# EAGLE library part OMAP3530-CBC-REF (library ti-omap)
OMAP3530-CBC edit this description Auto generated by make-symbol-device-package-bsdl.ulp Rev. 32 Source: OMAP3530-CBC.bsd
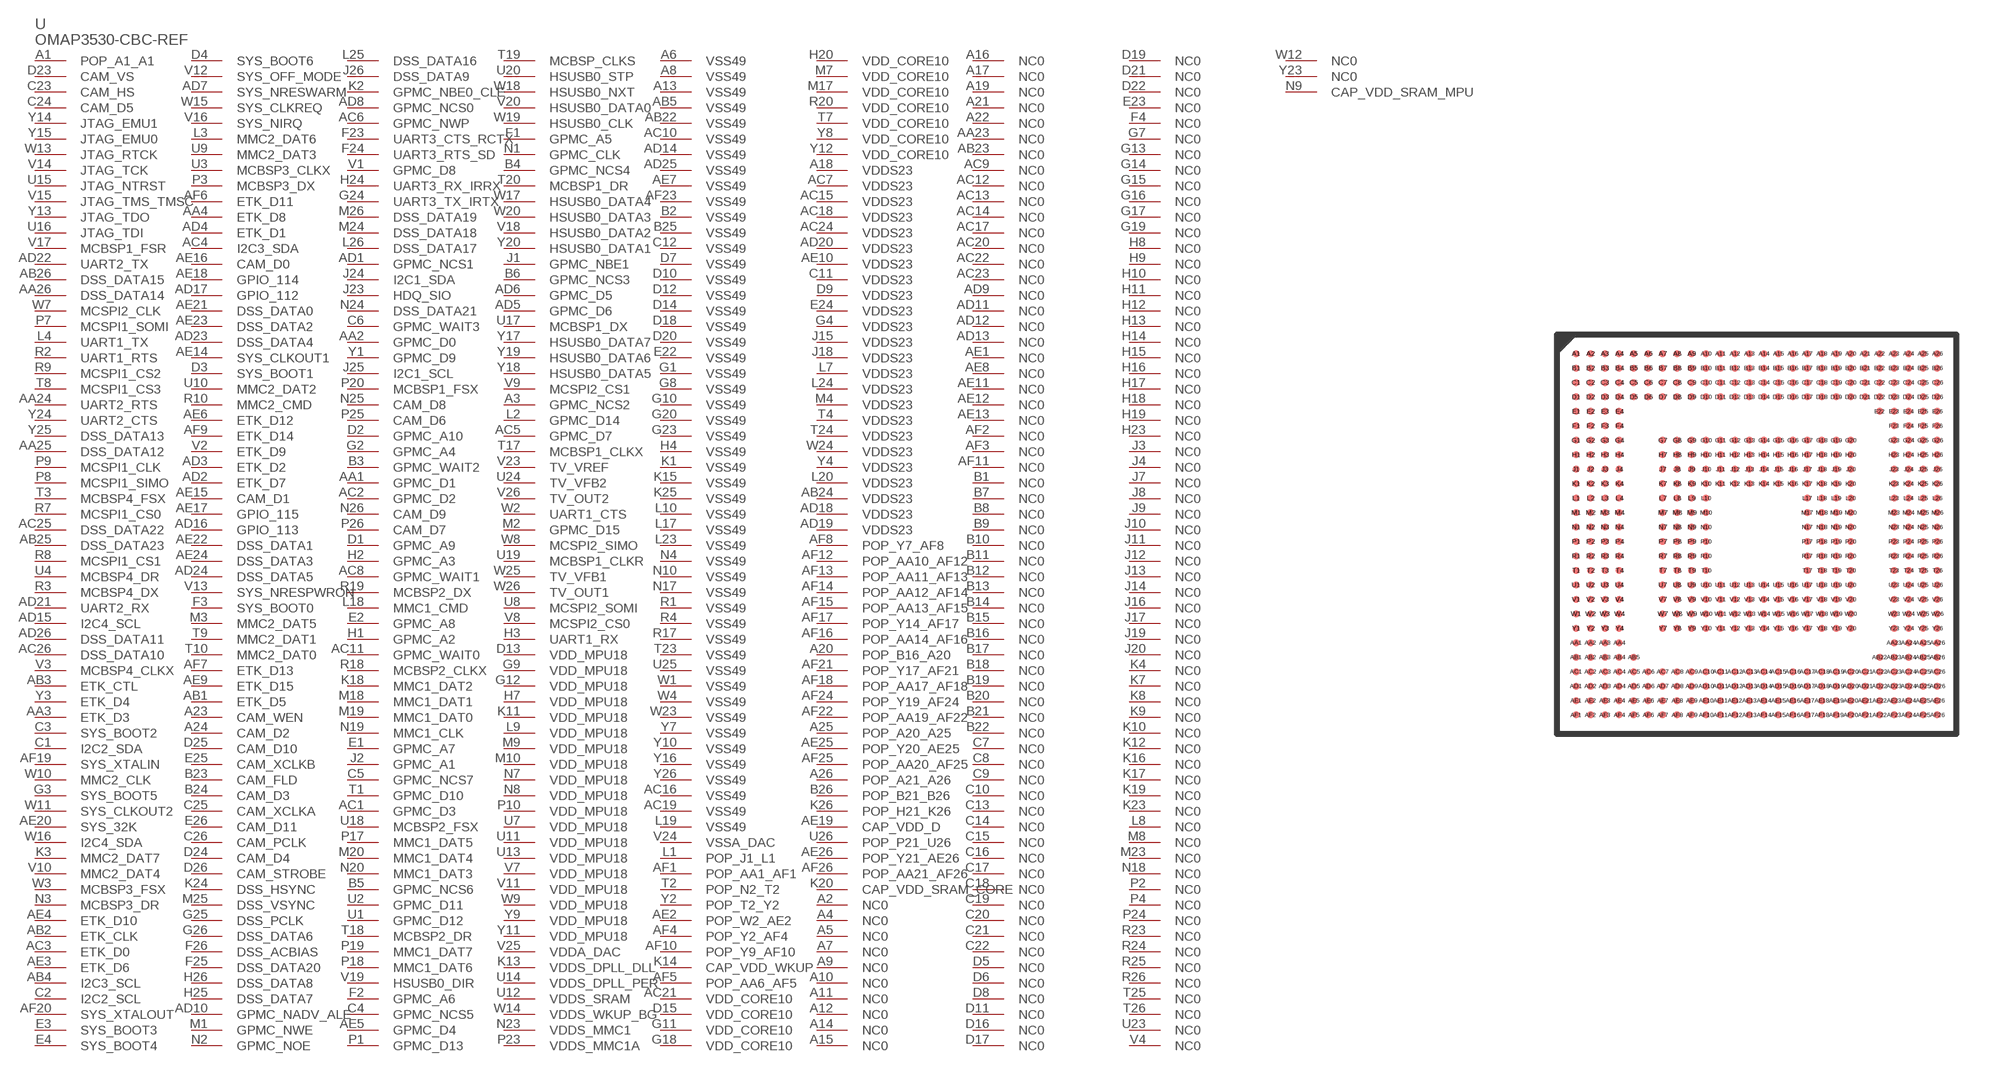
[diagram p1: symbol with the pads of CBC; footprint CBC]

Designator prefix U

## OMAP3530-CBC-REF  [CBC]
A1  POP_A1_A1  pas
A2  NC0  pas
A3  GPMC_NCS2
A4  NC0  pas
A5  NC0  pas
A6  VSS49  pas
A7  NC0  pas
A8  VSS49  pas
A9  NC0  pas
A10  NC0  pas
A11  NC0  pas
A12  NC0  pas
A13  VSS49  pas
A14  NC0  pas
A15  NC0  pas
A16  NC0  pas
A17  NC0  pas
A18  VDDS23  pas
A19  NC0  pas
A20  POP_B16_A20  pas
A21  NC0  pas
A22  NC0  pas
A23  CAM_WEN
A24  CAM_D2
A25  POP_A20_A25  pas
A26  POP_A21_A26  pas
AA1  GPMC_D1
AA2  GPMC_D0
AA3  ETK_D3
AA4  ETK_D8
AA23  NC0  pas
AA24  UART2_RTS
AA25  DSS_DATA12
AA26  DSS_DATA14
AB1  ETK_D5
AB2  ETK_CLK
AB3  ETK_CTL
AB4  I2C3_SCL
AB5  VSS49  pas
AB22  VSS49  pas
AB23  NC0  pas
AB24  VDDS23  pas
AB25  DSS_DATA23
AB26  DSS_DATA15
AC1  GPMC_D3
AC2  GPMC_D2
AC3  ETK_D0
AC4  I2C3_SDA
AC5  GPMC_D7
AC6  GPMC_NWP
AC7  VDDS23  pas
AC8  GPMC_WAIT1
AC9  NC0  pas
AC10  VSS49  pas
AC11  GPMC_WAIT0  in
AC12  NC0  pas
AC13  NC0  pas
AC14  NC0  pas
AC15  VDDS23  pas
AC16  VSS49  pas
AC17  NC0  pas
AC18  VDDS23  pas
AC19  VSS49  pas
AC20  NC0  pas
AC21  VDD_CORE10  pas
AC22  NC0  pas
AC23  NC0  pas
AC24  VDDS23  pas
AC25  DSS_DATA22
AC26  DSS_DATA10
AD1  GPMC_NCS1
AD2  ETK_D7
AD3  ETK_D2
AD4  ETK_D1
AD5  GPMC_D6
AD6  GPMC_D5
AD7  SYS_NRESWARM  pas
AD8  GPMC_NCS0  out
AD9  NC0  pas
AD10  GPMC_NADV_ALE  out
AD11  NC0  pas
AD12  NC0  pas
AD13  NC0  pas
AD14  VSS49  pas
AD15  I2C4_SCL
AD16  GPIO_113  in
AD17  GPIO_112  in
AD18  VDDS23  pas
AD19  VDDS23  pas
AD20  VDDS23  pas
AD21  UART2_RX
AD22  UART2_TX
AD23  DSS_DATA4
AD24  DSS_DATA5
AD25  VSS49  pas
AD26  DSS_DATA11
AE1  NC0  pas
AE2  POP_W2_AE2  pas
AE3  ETK_D6
AE4  ETK_D10
AE5  GPMC_D4
AE6  ETK_D12
AE7  VSS49  pas
AE8  NC0  pas
AE9  ETK_D15
AE10  VDDS23  pas
AE11  NC0  pas
AE12  NC0  pas
AE13  NC0  pas
AE14  SYS_CLKOUT1
AE15  CAM_D1  in
AE16  CAM_D0  in
AE17  GPIO_115  in
AE18  GPIO_114  in
AE19  CAP_VDD_D  pas
AE20  SYS_32K  pas
AE21  DSS_DATA0
AE22  DSS_DATA1
AE23  DSS_DATA2
AE24  DSS_DATA3
AE25  POP_Y20_AE25  pas
AE26  POP_Y21_AE26  pas
AF1  POP_AA1_AF1  pas
AF2  NC0  pas
AF3  NC0  pas
AF4  POP_Y2_AF4  pas
AF5  POP_AA6_AF5  pas
AF6  ETK_D11
AF7  ETK_D13
AF8  POP_Y7_AF8  pas
AF9  ETK_D14
AF10  POP_Y9_AF10  pas
AF11  NC0  pas
AF12  POP_AA10_AF12  pas
AF13  POP_AA11_AF13  pas
AF14  POP_AA12_AF14  pas
AF15  POP_AA13_AF15  pas
AF16  POP_AA14_AF16  pas
AF17  POP_Y14_AF17  pas
AF18  POP_AA17_AF18  pas
AF19  SYS_XTALIN  pas
AF20  SYS_XTALOUT  pas
AF21  POP_Y17_AF21  pas
AF22  POP_AA19_AF22  pas
AF23  VSS49  pas
AF24  POP_Y19_AF24  pas
AF25  POP_AA20_AF25  pas
AF26  POP_AA21_AF26  pas
B1  NC0  pas
B2  VSS49  pas
B3  GPMC_WAIT2
B4  GPMC_NCS4
B5  GPMC_NCS6
B6  GPMC_NCS3
B7  NC0  pas
B8  NC0  pas
B9  NC0  pas
B10  NC0  pas
B11  NC0  pas
B12  NC0  pas
B13  NC0  pas
B14  NC0  pas
B15  NC0  pas
B16  NC0  pas
B17  NC0  pas
B18  NC0  pas
B19  NC0  pas
B20  NC0  pas
B21  NC0  pas
B22  NC0  pas
B23  CAM_FLD
B24  CAM_D3
B25  VSS49  pas
B26  POP_B21_B26  pas
C1  I2C2_SDA
C2  I2C2_SCL
C3  SYS_BOOT2
C4  GPMC_NCS5
C5  GPMC_NCS7
C6  GPMC_WAIT3
C7  NC0  pas
C8  NC0  pas
C9  NC0  pas
C10  NC0  pas
C11  VDDS23  pas
C12  VSS49  pas
C13  NC0  pas
C14  NC0  pas
C15  NC0  pas
C16  NC0  pas
C17  NC0  pas
C18  NC0  pas
C19  NC0  pas
C20  NC0  pas
C21  NC0  pas
C22  NC0  pas
C23  CAM_HS
C24  CAM_D5
C25  CAM_XCLKA
C26  CAM_PCLK
D1  GPMC_A9
D2  GPMC_A10
D3  SYS_BOOT1
D4  SYS_BOOT6
D5  NC0  pas
D6  NC0  pas
D7  VSS49  pas
D8  NC0  pas
D9  VDDS23  pas
D10  VSS49  pas
D11  NC0  pas
D12  VSS49  pas
D13  VDD_MPU18  pas
D14  VSS49  pas
D15  VDD_CORE10  pas
D16  NC0  pas
D17  NC0  pas
D18  VSS49  pas
D19  NC0  pas
D20  VSS49  pas
D21  NC0  pas
D22  NC0  pas
D23  CAM_VS
D24  CAM_D4
D25  CAM_D10
D26  CAM_STROBE
E1  GPMC_A7
E2  GPMC_A8
E3  SYS_BOOT3
E4  SYS_BOOT4
E22  VSS49  pas
E23  NC0  pas
E24  VDDS23  pas
E25  CAM_XCLKB
E26  CAM_D11
F1  GPMC_A5
F2  GPMC_A6
F3  SYS_BOOT0
F4  NC0  pas
F23  UART3_CTS_RCTX
F24  UART3_RTS_SD
F25  DSS_DATA20
F26  DSS_ACBIAS
G1  VSS49  pas
G2  GPMC_A4
G3  SYS_BOOT5
G4  VDDS23  pas
G7  NC0  pas
G8  VSS49  pas
G9  VDD_MPU18  pas
G10  VSS49  pas
G11  VDD_CORE10  pas
G12  VDD_MPU18  pas
G13  NC0  pas
G14  NC0  pas
G15  NC0  pas
G16  NC0  pas
G17  NC0  pas
G18  VDD_CORE10  pas
G19  NC0  pas
G20  VSS49  pas
G23  VSS49  pas
G24  UART3_TX_IRTX
G25  DSS_PCLK
G26  DSS_DATA6
H1  GPMC_A2
H2  GPMC_A3
H3  UART1_RX
H4  VSS49  pas
H7  VDD_MPU18  pas
H8  NC0  pas
H9  NC0  pas
H10  NC0  pas
H11  NC0  pas
H12  NC0  pas
H13  NC0  pas
H14  NC0  pas
H15  NC0  pas
H16  NC0  pas
H17  NC0  pas
H18  NC0  pas
H19  NC0  pas
H20  VDD_CORE10  pas
H23  NC0  pas
H24  UART3_RX_IRRX
H25  DSS_DATA7
H26  DSS_DATA8
J1  GPMC_NBE1
J2  GPMC_A1
J3  NC0  pas
J4  NC0  pas
J7  NC0  pas
J8  NC0  pas
J9  NC0  pas
J10  NC0  pas
J11  NC0  pas
J12  NC0  pas
J13  NC0  pas
J14  NC0  pas
J15  VDDS23  pas
J16  NC0  pas
J17  NC0  pas
J18  VDDS23  pas
J19  NC0  pas
J20  NC0  pas
J23  HDQ_SIO
J24  I2C1_SDA
J25  I2C1_SCL
J26  DSS_DATA9
K1  VSS49  pas
K2  GPMC_NBE0_CLE
K3  MMC2_DAT7
K4  NC0  pas
K7  NC0  pas
K8  NC0  pas
K9  NC0  pas
K10  NC0  pas
K11  VDD_MPU18  pas
K12  NC0  pas
K13  VDDS_DPLL_DLL  pas
K14  CAP_VDD_WKUP  pas
K15  VSS49  pas
K16  NC0  pas
K17  NC0  pas
K18  MMC1_DAT2
K19  NC0  pas
K20  CAP_VDD_SRAM_CORE  pas
K23  NC0  pas
K24  DSS_HSYNC
K25  VSS49  pas
K26  POP_H21_K26  pas
L1  POP_J1_L1  pas
L2  GPMC_D14
L3  MMC2_DAT6
L4  UART1_TX
L7  VDDS23  pas
L8  NC0  pas
L9  VDD_MPU18  pas
L10  VSS49  pas
L17  VSS49  pas
L18  MMC1_CMD
L19  VSS49  pas
L20  VDDS23  pas
L23  VSS49  pas
L24  VDDS23  pas
L25  DSS_DATA16
L26  DSS_DATA17
M1  GPMC_NWE  out
M2  GPMC_D15
M3  MMC2_DAT5
M4  VDDS23  pas
M7  VDD_CORE10  pas
M8  NC0  pas
M9  VDD_MPU18  pas
M10  VDD_MPU18  pas
M17  VDD_CORE10  pas
M18  MMC1_DAT1
M19  MMC1_DAT0
M20  MMC1_DAT4
M23  NC0  pas
M24  DSS_DATA18
M25  DSS_VSYNC
M26  DSS_DATA19
N1  GPMC_CLK
N2  GPMC_NOE  out
N3  MCBSP3_DR
N4  VSS49  pas
N7  VDD_MPU18  pas
N8  VDD_MPU18  pas
N9  CAP_VDD_SRAM_MPU  pas
N10  VSS49  pas
N17  VSS49  pas
N18  NC0  pas
N19  MMC1_CLK
N20  MMC1_DAT3
N23  VDDS_MMC1  pas
N24  DSS_DATA21
N25  CAM_D8
N26  CAM_D9
P1  GPMC_D13
P2  NC0  pas
P3  MCBSP3_DX
P4  NC0  pas
P7  MCSPI1_SOMI
P8  MCSPI1_SIMO
P9  MCSPI1_CLK
P10  VDD_MPU18  pas
P17  MMC1_DAT5
P18  MMC1_DAT6
P19  MMC1_DAT7
P20  MCBSP1_FSX
P23  VDDS_MMC1A  pas
P24  NC0  pas
P25  CAM_D6
P26  CAM_D7
R1  VSS49  pas
R2  UART1_RTS
R3  MCBSP4_DX
R4  VSS49  pas
R7  MCSPI1_CS0
R8  MCSPI1_CS1
R9  MCSPI1_CS2
R10  MMC2_CMD
R17  VSS49  pas
R18  MCBSP2_CLKX
R19  MCBSP2_DX
R20  VDD_CORE10  pas
R23  NC0  pas
R24  NC0  pas
R25  NC0  pas
R26  NC0  pas
T1  GPMC_D10
T2  POP_N2_T2  pas
T3  MCBSP4_FSX
T4  VDDS23  pas
T7  VDD_CORE10  pas
T8  MCSPI1_CS3
T9  MMC2_DAT1
T10  MMC2_DAT0
T17  MCBSP1_CLKX
T18  MCBSP2_DR
T19  MCBSP_CLKS
T20  MCBSP1_DR
T23  VSS49  pas
T24  VDDS23  pas
T25  NC0  pas
T26  NC0  pas
U1  GPMC_D12
U2  GPMC_D11
U3  MCBSP3_CLKX
U4  MCBSP4_DR
U7  VDD_MPU18  pas
U8  MCSPI2_SOMI
U9  MMC2_DAT3
U10  MMC2_DAT2
U11  VDD_MPU18  pas
U12  VDDS_SRAM  pas
U13  VDD_MPU18  pas
U14  VDDS_DPLL_PER  pas
U15  JTAG_NTRST  in
U16  JTAG_TDI  in
U17  MCBSP1_DX
U18  MCBSP2_FSX
U19  MCBSP1_CLKR
U20  HSUSB0_STP
U23  NC0  pas
U24  TV_VFB2  pas
U25  VSS49  pas
U26  POP_P21_U26  pas
V1  GPMC_D8
V2  ETK_D9
V3  MCBSP4_CLKX
V4  NC0  pas
V7  VDD_MPU18  pas
V8  MCSPI2_CS0
V9  MCSPI2_CS1
V10  MMC2_DAT4
V11  VDD_MPU18  pas
V12  SYS_OFF_MODE
V13  SYS_NRESPWRON  pas
V14  JTAG_TCK  in
V15  JTAG_TMS_TMSC  in
V16  SYS_NIRQ
V17  MCBSP1_FSR
V18  HSUSB0_DATA2
V19  HSUSB0_DIR
V20  HSUSB0_DATA0
V23  TV_VREF  pas
V24  VSSA_DAC  pas
V25  VDDA_DAC  pas
V26  TV_OUT2  pas
W1  VSS49  pas
W2  UART1_CTS
W3  MCBSP3_FSX
W4  VSS49  pas
W7  MCSPI2_CLK
W8  MCSPI2_SIMO
W9  VDD_MPU18  pas
W10  MMC2_CLK
W11  SYS_CLKOUT2
W12  NC0  pas
W13  JTAG_RTCK  pas
W14  VDDS_WKUP_BG  pas
W15  SYS_CLKREQ
W16  I2C4_SDA
W17  HSUSB0_DATA4
W18  HSUSB0_NXT
W19  HSUSB0_CLK
W20  HSUSB0_DATA3
W23  VSS49  pas
W24  VDDS23  pas
W25  TV_VFB1  pas
W26  TV_OUT1  pas
Y1  GPMC_D9
Y2  POP_T2_Y2  pas
Y3  ETK_D4
Y4  VDDS23  pas
Y7  VSS49  pas
Y8  VDD_CORE10  pas
Y9  VDD_MPU18  pas
Y10  VSS49  pas
Y11  VDD_MPU18  pas
Y12  VDD_CORE10  pas
Y13  JTAG_TDO  out
Y14  JTAG_EMU1  pas
Y15  JTAG_EMU0  pas
Y16  VSS49  pas
Y17  HSUSB0_DATA7
Y18  HSUSB0_DATA5
Y19  HSUSB0_DATA6
Y20  HSUSB0_DATA1
Y23  NC0  pas
Y24  UART2_CTS
Y25  DSS_DATA13
Y26  VSS49  pas

## Footprint CBC (pad centres in mm)
PBGA-515 - CBC (S-PBGA-N515) body 14x14 mm, pitch 0.5 mm
smd 0.25 x 0.25: A1 -6.25,6.25; A2 -5.75,6.25; A3 -5.25,6.25; A4 -4.75,6.25; A5 -4.25,6.25; A6 -3.75,6.25; A7 -3.25,6.25; A8 -2.75,6.25; A9 -2.25,6.25; A10 -1.75,6.25; A11 -1.25,6.25; A12 -0.75,6.25; A13 -0.25,6.25; A14 0.25,6.25; A15 0.75,6.25; A16 1.25,6.25; A17 1.75,6.25; A18 2.25,6.25; A19 2.75,6.25; A20 3.25,6.25; A21 3.75,6.25; A22 4.25,6.25; A23 4.75,6.25; A24 5.25,6.25; A25 5.75,6.25; A26 6.25,6.25; AA1 -6.25,-3.75; AA2 -5.75,-3.75; AA3 -5.25,-3.75; AA4 -4.75,-3.75; AA23 4.75,-3.75; AA24 5.25,-3.75; AA25 5.75,-3.75; AA26 6.25,-3.75; AB1 -6.25,-4.25; AB2 -5.75,-4.25; AB3 -5.25,-4.25; AB4 -4.75,-4.25; AB5 -4.25,-4.25; AB22 4.25,-4.25; AB23 4.75,-4.25; AB24 5.25,-4.25; AB25 5.75,-4.25; AB26 6.25,-4.25; AC1 -6.25,-4.75; AC2 -5.75,-4.75; AC3 -5.25,-4.75; AC4 -4.75,-4.75; AC5 -4.25,-4.75; AC6 -3.75,-4.75; AC7 -3.25,-4.75; AC8 -2.75,-4.75; AC9 -2.25,-4.75; AC10 -1.75,-4.75; AC11 -1.25,-4.75; AC12 -0.75,-4.75; AC13 -0.25,-4.75; AC14 0.25,-4.75; AC15 0.75,-4.75; AC16 1.25,-4.75; AC17 1.75,-4.75; AC18 2.25,-4.75; AC19 2.75,-4.75; AC20 3.25,-4.75; AC21 3.75,-4.75; AC22 4.25,-4.75; AC23 4.75,-4.75; AC24 5.25,-4.75; AC25 5.75,-4.75; AC26 6.25,-4.75; AD1 -6.25,-5.25; AD2 -5.75,-5.25; AD3 -5.25,-5.25; AD4 -4.75,-5.25; AD5 -4.25,-5.25; AD6 -3.75,-5.25; AD7 -3.25,-5.25; AD8 -2.75,-5.25; AD9 -2.25,-5.25; AD10 -1.75,-5.25; AD11 -1.25,-5.25; AD12 -0.75,-5.25; AD13 -0.25,-5.25; AD14 0.25,-5.25; AD15 0.75,-5.25; AD16 1.25,-5.25; AD17 1.75,-5.25; AD18 2.25,-5.25; AD19 2.75,-5.25; AD20 3.25,-5.25; AD21 3.75,-5.25; AD22 4.25,-5.25; AD23 4.75,-5.25; AD24 5.25,-5.25; AD25 5.75,-5.25; AD26 6.25,-5.25; AE1 -6.25,-5.75; AE2 -5.75,-5.75; AE3 -5.25,-5.75; AE4 -4.75,-5.75; AE5 -4.25,-5.75; AE6 -3.75,-5.75; AE7 -3.25,-5.75; AE8 -2.75,-5.75; AE9 -2.25,-5.75; AE10 -1.75,-5.75; AE11 -1.25,-5.75; AE12 -0.75,-5.75; AE13 -0.25,-5.75; AE14 0.25,-5.75; AE15 0.75,-5.75; AE16 1.25,-5.75; AE17 1.75,-5.75; AE18 2.25,-5.75; AE19 2.75,-5.75; AE20 3.25,-5.75; AE21 3.75,-5.75; AE22 4.25,-5.75; AE23 4.75,-5.75; AE24 5.25,-5.75; AE25 5.75,-5.75; AE26 6.25,-5.75; AF1 -6.25,-6.25; AF2 -5.75,-6.25; AF3 -5.25,-6.25; AF4 -4.75,-6.25; AF5 -4.25,-6.25; AF6 -3.75,-6.25; AF7 -3.25,-6.25; AF8 -2.75,-6.25; AF9 -2.25,-6.25; AF10 -1.75,-6.25; AF11 -1.25,-6.25; AF12 -0.75,-6.25; AF13 -0.25,-6.25; AF14 0.25,-6.25; AF15 0.75,-6.25; AF16 1.25,-6.25; AF17 1.75,-6.25; AF18 2.25,-6.25; AF19 2.75,-6.25; AF20 3.25,-6.25; AF21 3.75,-6.25; AF22 4.25,-6.25; AF23 4.75,-6.25; AF24 5.25,-6.25; AF25 5.75,-6.25; AF26 6.25,-6.25; B1 -6.25,5.75; B2 -5.75,5.75; B3 -5.25,5.75; B4 -4.75,5.75; B5 -4.25,5.75; B6 -3.75,5.75; B7 -3.25,5.75; B8 -2.75,5.75; B9 -2.25,5.75; B10 -1.75,5.75; B11 -1.25,5.75; B12 -0.75,5.75; B13 -0.25,5.75; B14 0.25,5.75; B15 0.75,5.75; B16 1.25,5.75; B17 1.75,5.75; B18 2.25,5.75; B19 2.75,5.75; B20 3.25,5.75; B21 3.75,5.75; B22 4.25,5.75; B23 4.75,5.75; B24 5.25,5.75; B25 5.75,5.75; B26 6.25,5.75; C1 -6.25,5.25; C2 -5.75,5.25; C3 -5.25,5.25; C4 -4.75,5.25; C5 -4.25,5.25; C6 -3.75,5.25; C7 -3.25,5.25; C8 -2.75,5.25; C9 -2.25,5.25; C10 -1.75,5.25; C11 -1.25,5.25; C12 -0.75,5.25; C13 -0.25,5.25; C14 0.25,5.25; C15 0.75,5.25; C16 1.25,5.25; C17 1.75,5.25; C18 2.25,5.25; C19 2.75,5.25; C20 3.25,5.25; C21 3.75,5.25; C22 4.25,5.25; C23 4.75,5.25; C24 5.25,5.25; C25 5.75,5.25; C26 6.25,5.25; D1 -6.25,4.75; D2 -5.75,4.75; D3 -5.25,4.75; D4 -4.75,4.75; D5 -4.25,4.75; D6 -3.75,4.75; D7 -3.25,4.75; D8 -2.75,4.75; D9 -2.25,4.75; D10 -1.75,4.75; D11 -1.25,4.75; D12 -0.75,4.75; D13 -0.25,4.75; D14 0.25,4.75; D15 0.75,4.75; D16 1.25,4.75; D17 1.75,4.75; D18 2.25,4.75; D19 2.75,4.75; D20 3.25,4.75; D21 3.75,4.75; D22 4.25,4.75; D23 4.75,4.75; D24 5.25,4.75; D25 5.75,4.75; D26 6.25,4.75; E1 -6.25,4.25; E2 -5.75,4.25; E3 -5.25,4.25; E4 -4.75,4.25; E22 4.25,4.25; E23 4.75,4.25; E24 5.25,4.25; E25 5.75,4.25; E26 6.25,4.25; F1 -6.25,3.75; F2 -5.75,3.75; F3 -5.25,3.75; F4 -4.75,3.75; F23 4.75,3.75; F24 5.25,3.75; F25 5.75,3.75; F26 6.25,3.75; G1 -6.25,3.25; G2 -5.75,3.25; G3 -5.25,3.25; G4 -4.75,3.25; G7 -3.25,3.25; G8 -2.75,3.25; G9 -2.25,3.25; G10 -1.75,3.25; G11 -1.25,3.25; G12 -0.75,3.25; G13 -0.25,3.25; G14 0.25,3.25; G15 0.75,3.25; G16 1.25,3.25; G17 1.75,3.25; G18 2.25,3.25; G19 2.75,3.25; G20 3.25,3.25; G23 4.75,3.25; G24 5.25,3.25; G25 5.75,3.25; G26 6.25,3.25; H1 -6.25,2.75; H2 -5.75,2.75; H3 -5.25,2.75; H4 -4.75,2.75; H7 -3.25,2.75; H8 -2.75,2.75; H9 -2.25,2.75; H10 -1.75,2.75; H11 -1.25,2.75; H12 -0.75,2.75; H13 -0.25,2.75; H14 0.25,2.75; H15 0.75,2.75; H16 1.25,2.75; H17 1.75,2.75; H18 2.25,2.75; H19 2.75,2.75; H20 3.25,2.75; H23 4.75,2.75; H24 5.25,2.75; H25 5.75,2.75; H26 6.25,2.75; J1 -6.25,2.25; J2 -5.75,2.25; J3 -5.25,2.25; J4 -4.75,2.25; J7 -3.25,2.25; J8 -2.75,2.25; J9 -2.25,2.25; J10 -1.75,2.25; J11 -1.25,2.25; J12 -0.75,2.25; J13 -0.25,2.25; J14 0.25,2.25; J15 0.75,2.25; J16 1.25,2.25; J17 1.75,2.25; J18 2.25,2.25; J19 2.75,2.25; J20 3.25,2.25; J23 4.75,2.25; J24 5.25,2.25; J25 5.75,2.25; J26 6.25,2.25; K1 -6.25,1.75; K2 -5.75,1.75; K3 -5.25,1.75; K4 -4.75,1.75; K7 -3.25,1.75; K8 -2.75,1.75; K9 -2.25,1.75; K10 -1.75,1.75; K11 -1.25,1.75; K12 -0.75,1.75; K13 -0.25,1.75; K14 0.25,1.75; K15 0.75,1.75; K16 1.25,1.75; K17 1.75,1.75; K18 2.25,1.75; K19 2.75,1.75; K20 3.25,1.75; K23 4.75,1.75; K24 5.25,1.75; K25 5.75,1.75; K26 6.25,1.75; L1 -6.25,1.25; L2 -5.75,1.25; L3 -5.25,1.25; L4 -4.75,1.25; L7 -3.25,1.25; L8 -2.75,1.25; L9 -2.25,1.25; L10 -1.75,1.25; L17 1.75,1.25; L18 2.25,1.25; L19 2.75,1.25; L20 3.25,1.25; L23 4.75,1.25; L24 5.25,1.25; L25 5.75,1.25; L26 6.25,1.25; M1 -6.25,0.75; M2 -5.75,0.75; M3 -5.25,0.75; M4 -4.75,0.75; M7 -3.25,0.75; M8 -2.75,0.75; M9 -2.25,0.75; M10 -1.75,0.75; M17 1.75,0.75; M18 2.25,0.75; M19 2.75,0.75; M20 3.25,0.75; M23 4.75,0.75; M24 5.25,0.75; M25 5.75,0.75; M26 6.25,0.75; N1 -6.25,0.25; N2 -5.75,0.25; N3 -5.25,0.25; N4 -4.75,0.25; N7 -3.25,0.25; N8 -2.75,0.25; N9 -2.25,0.25; N10 -1.75,0.25; N17 1.75,0.25; N18 2.25,0.25; N19 2.75,0.25; N20 3.25,0.25; N23 4.75,0.25; N24 5.25,0.25; N25 5.75,0.25; N26 6.25,0.25; P1 -6.25,-0.25; P2 -5.75,-0.25; P3 -5.25,-0.25; P4 -4.75,-0.25; P7 -3.25,-0.25; P8 -2.75,-0.25; P9 -2.25,-0.25; P10 -1.75,-0.25; P17 1.75,-0.25; P18 2.25,-0.25; P19 2.75,-0.25; P20 3.25,-0.25; P23 4.75,-0.25; P24 5.25,-0.25; P25 5.75,-0.25; P26 6.25,-0.25; R1 -6.25,-0.75; R2 -5.75,-0.75; R3 -5.25,-0.75; R4 -4.75,-0.75; R7 -3.25,-0.75; R8 -2.75,-0.75; R9 -2.25,-0.75; R10 -1.75,-0.75; R17 1.75,-0.75; R18 2.25,-0.75; R19 2.75,-0.75; R20 3.25,-0.75; R23 4.75,-0.75; R24 5.25,-0.75; R25 5.75,-0.75; R26 6.25,-0.75; T1 -6.25,-1.25; T2 -5.75,-1.25; T3 -5.25,-1.25; T4 -4.75,-1.25; T7 -3.25,-1.25; T8 -2.75,-1.25; T9 -2.25,-1.25; T10 -1.75,-1.25; T17 1.75,-1.25; T18 2.25,-1.25; T19 2.75,-1.25; T20 3.25,-1.25; T23 4.75,-1.25; T24 5.25,-1.25; T25 5.75,-1.25; T26 6.25,-1.25; U1 -6.25,-1.75; U2 -5.75,-1.75; U3 -5.25,-1.75; U4 -4.75,-1.75; U7 -3.25,-1.75; U8 -2.75,-1.75; U9 -2.25,-1.75; U10 -1.75,-1.75; U11 -1.25,-1.75; U12 -0.75,-1.75; U13 -0.25,-1.75; U14 0.25,-1.75; U15 0.75,-1.75; U16 1.25,-1.75; U17 1.75,-1.75; U18 2.25,-1.75; U19 2.75,-1.75; U20 3.25,-1.75; U23 4.75,-1.75; U24 5.25,-1.75; U25 5.75,-1.75; U26 6.25,-1.75; V1 -6.25,-2.25; V2 -5.75,-2.25; V3 -5.25,-2.25; V4 -4.75,-2.25; V7 -3.25,-2.25; V8 -2.75,-2.25; V9 -2.25,-2.25; V10 -1.75,-2.25; V11 -1.25,-2.25; V12 -0.75,-2.25; V13 -0.25,-2.25; V14 0.25,-2.25; V15 0.75,-2.25; V16 1.25,-2.25; V17 1.75,-2.25; V18 2.25,-2.25; V19 2.75,-2.25; V20 3.25,-2.25; V23 4.75,-2.25; V24 5.25,-2.25; V25 5.75,-2.25; V26 6.25,-2.25; W1 -6.25,-2.75; W2 -5.75,-2.75; W3 -5.25,-2.75; W4 -4.75,-2.75; W7 -3.25,-2.75; W8 -2.75,-2.75; W9 -2.25,-2.75; W10 -1.75,-2.75; W11 -1.25,-2.75; W12 -0.75,-2.75; W13 -0.25,-2.75; W14 0.25,-2.75; W15 0.75,-2.75; W16 1.25,-2.75; W17 1.75,-2.75; W18 2.25,-2.75; W19 2.75,-2.75; W20 3.25,-2.75; W23 4.75,-2.75; W24 5.25,-2.75; W25 5.75,-2.75; W26 6.25,-2.75; Y1 -6.25,-3.25; Y2 -5.75,-3.25; Y3 -5.25,-3.25; Y4 -4.75,-3.25; Y7 -3.25,-3.25; Y8 -2.75,-3.25; Y9 -2.25,-3.25; Y10 -1.75,-3.25; Y11 -1.25,-3.25; Y12 -0.75,-3.25; Y13 -0.25,-3.25; Y14 0.25,-3.25; Y15 0.75,-3.25; Y16 1.25,-3.25; Y17 1.75,-3.25; Y18 2.25,-3.25; Y19 2.75,-3.25; Y20 3.25,-3.25; Y23 4.75,-3.25; Y24 5.25,-3.25; Y25 5.75,-3.25; Y26 6.25,-3.25